# Altium schematic symbol library SnapEDAsch.SchLib: 1 symbol
Pins are listed as number, name and electrical type; pins without a type are passive.

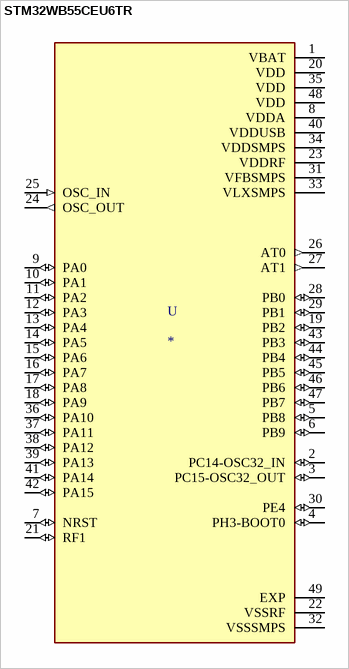
[diagram p0: symbol STM32WB55CEU6TR]

## STM32WB55CEU6TR
designator U
IC RF TxRx + MCU 802.15.4, Bluetooth Bluetooth v5.0, Thread, ZigbeeÂ® 2.402GHz ~ 2.48GHz 48-UFQFN Exposed Pad; MF: STMicroelectronics; MP: STM32WB55CEU6TR; Package: UFQFN-48 STMicroelectronics; Value: *; Availability: Unavailable; SnapEDA_Link: https://www.snapeda.com/parts/STM32WB55CEU6TR/STMicroelectronics/view-part/4220641/?ref=snap; Price: None
footprint QFN50P700X700X60-49N
pins: 1 VBAT (power), 2 PC14-OSC32_IN (io), 3 PC15-OSC32_OUT (io), 4 PH3-BOOT0 (io), 5 PB8 (io), 6 PB9 (io), 7 NRST (io), 8 VDDA (power), 9 PA0 (io), 10 PA1 (io), 11 PA2 (io), 12 PA3 (io), 13 PA4 (io), 14 PA5 (io), 15 PA6 (io), 16 PA7 (io), 17 PA8 (io), 18 PA9 (io), 19 PB2 (io), 20 VDD (power), 21 RF1 (io), 22 VSSRF (power), 23 VDDRF (power), 24 OSC_OUT (out), 25 OSC_IN (in), 26 AT0 (out), 27 AT1 (out), 28 PB0 (io), 29 PB1 (io), 30 PE4 (io), 31 VFBSMPS (power), 32 VSSSMPS (power), 33 VLXSMPS (power), 34 VDDSMPS (power), 35 VDD (power), 36 PA10 (io), 37 PA11 (io), 38 PA12 (io), 39 PA13 (io), 40 VDDUSB (power), 41 PA14 (io), 42 PA15 (io), 43 PB3 (io), 44 PB4 (io), 45 PB5 (io), 46 PB6 (io), 47 PB7 (io), 48 VDD (power), 49 EXP (power)